# Altium footprint library SWITCH_SLIDE.PcbLib: 12 footprints
Each footprint in its own frame and in the unit in brackets; x right, y up, seen from the top. Pads: shape width x height; smd on the part's side, far side on the other; paste and mask are expansions set on the pad; w line width, h text height; cw(c..) or ccw(c..) is an arc to the next point about the centre after c.
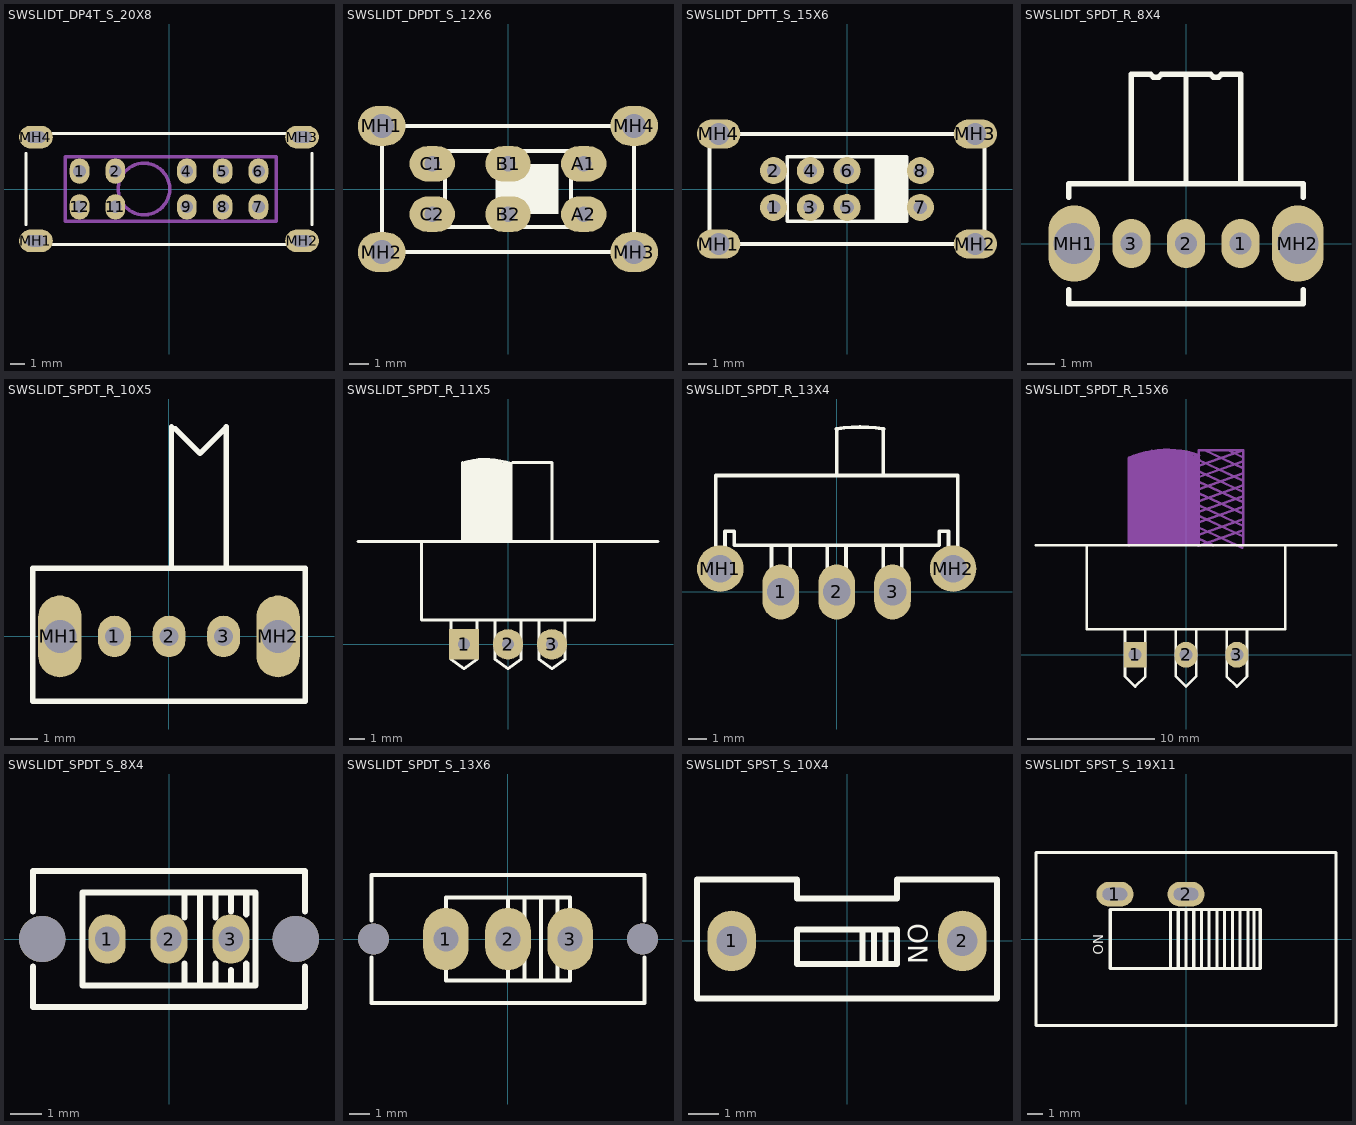
[diagram p0: the footprints below, top view; thin cyan lines are the x and y axes]

## SWSLIDT_DP4T_S_20X8 [mm]
pads (14):
  oval 1.4x1.8 hole 0.9: 1(-6.35,1.27) 2(-3.81,1.27) 4(1.27,1.27) 5(3.81,1.27) 6(6.35,1.27) 7(6.35,-1.27) 8(3.81,-1.27) 9(1.27,-1.27) 11(-3.81,-1.27) 12(-6.35,-1.27)
  oval 2.4x1.6 hole 0.8 slot 1.4 at 0 deg: MH1(-9.449,-3.683) MH2(9.449,-3.683) MH3(9.449,3.683) MH4(-9.449,3.683)
Top Overlay:
  lines w0.2: -10.16,-2.54 -10.16,2.54 ; -8.255,-3.937 8.255,-3.937 ; -8.255,3.937 8.255,3.937 ; 10.16,-2.54 10.16,2.54
Mechanical 2:
  circle w0.254: c-1.778,0 r1.832
  lines w0.254: -7.366,-2.286 7.62,-2.286 7.62,2.286 -7.366,2.286 -7.366,-2.286
3D body "DP4T.STEP": height 12.25, standoff -2.3, extent -10.075,-3.9 10.075,3.9

## SWSLIDT_DPDT_S_12X6 [mil] "SWITH DUAL POS, DUAL TERMINAL, STRAIGHT"
pads (10):
  oval 90x70 hole 30: A1(150,50) A2(150,-50) B1(0,50) B2(0,-50) C1(-150,50) C2(-150,-50)
  oval 94.49x78.74 hole 47.24: MH1(-250,125) MH2(-250,-125) MH3(250,-125) MH4(250,125)
Top Overlay:
  region: -25,50 -25,-50 100,-50 100,50
  lines w7.87: -250,-125 250,-125 250,125 -250,125 -250,-125 ; -125,-75 -125,75 125,75 125,-75 -125,-75

## SWSLIDT_DPTT_S_15X6 [mil] "SWITCH DUAL POS TO THREE TERMINAL, STRAIGHT"
pads (12):
  round 59.06 hole 30: 1(-160,-40) 2(-160,40) 3(-80,-40) 4(-80,40) 5(0,-40) 6(0,40) 7(160,-40) 8(160,40)
  oval 94.49x62.99 hole 47.24: MH1(-280,-120) MH2(280,-120) MH3(280,120) MH4(-280,120)
Top Overlay:
  region: 130,-70 130,70 60,70 60,-70
  lines w7.87: -300,-120 300,-120 300,120 -300,120 -300,-120 ; -130,-70 -130,70 130,70 130,-70 -130,-70

## SWSLIDT_SPDT_R_8X4 [mm] "Subminiator SPDT switch"
pads (5):
  oval 1.4x1.8 hole 0.8: 1(2,0) 2(0,0) 3(-2,0)
  oval 1.9x2.8 hole 1.5: MH1(-4.1,0) MH2(4.1,0)
Top Overlay:
  lines w0.2: -4.3,-1.7 -4.3,-2.2 4.3,-2.2 4.3,-1.7 ; -4.3,1.7 -4.3,2.2 4.3,2.2 4.3,1.7 ; -2,2.2 -2,6.2 ; 0,2.2 0,6.2 ; 2,2.2 2,6.2 1.3,6.2 1.2,6.1 1,6.1 0.9,6.2 0,6.2 ; -2,6.2 -1.3,6.2 -1.2,6.1 -1,6.1 -0.9,6.2 0,6.2 ; -2,6.2 -2,6.2 ; 0,6.2 0,6.2 ; 0,6.2 0,6.2
3D body "User Library-CK_Slide.step": height 4.7, standoff -2.79, extent -4.311,-2.28 4.3,6.093

## SWSLIDT_SPDT_R_10X5 [mm]
pads (5):
  oval 1.2x1.524 hole 0.7: 1(-2,0) 2(0,0) 3(2,0)
  oval 1.6x3 hole 1.2: MH1(-4,0) MH2(4,0)
Top Overlay:
  lines w0.2: 0.091,2.589 0.091,7.689 ; 0.236,7.616 1.136,6.716 ; 2.036,7.616 1.136,6.716 ; 2.091,2.589 2.091,7.689 ; 1.136,6.716 1.136,6.716 ; -5,-2.375 -5,2.5 5,2.5 5,-2.375 -5,-2.375

## SWSLIDT_SPDT_R_11X5 [mm]
pads (3):
  rect 2x2 hole 0.8: 1(-2.9,0)
  round 2 hole 0.8: 2(0,0) 3(2.9,0)
Top Overlay:
  region: 0.2,6.8 0.2,11.982 -2.998,11.982 -2.998,6.8
  lines w0.2: -9.9,6.8 9.9,6.8 ; -5.7,6.8 -5.7,1.6 5.7,1.6 5.7,6.8 ; -3.75,1.6 -3.75,-1 -2.9,-1.6 -2.05,-1 -2.05,1.6 ; -3,6.8 -2.998,11.982 cw(c-1.48,6.8) 0.201,11.932 0.2,6.8 ; -2.5,12.01 -0.47,12.01 ; -0.85,1.6 -0.85,-1 0,-1.6 0.85,-1 0.85,1.6 ; 0.282,11.99 2.9,11.99 2.9,6.8 ; 2.05,1.6 2.05,-1 2.9,-1.6 3.75,-1 3.75,1.6

## SWSLIDT_SPDT_R_13X4 [mm] "SWITCH SINGLE POS TO DUAL TERMINAL RIGHT ANGLE"
pads (5):
  oval 2x3 hole 1.5: 1(-3.048,0) 2(0,0) 3(3.048,0)
  round 2.54 hole 1.5: MH1(-6.35,1.27) MH2(6.35,1.27)
Top Overlay:
  lines w0.2: -3.556,2.54 -3.556,0 -2.54,0 -2.54,2.54 ; -0.508,2.54 -0.508,0 0.508,0 0.508,2.54 ; -0.028,8.885 cw(c1.27,1.524) 2.568,8.885 ; 0,6.35 0,8.89 ; 2.54,2.54 2.54,0 3.556,0 3.556,2.54 ; 2.54,6.35 2.54,8.89 ; -6.604,1.27 -6.096,1.27 -6.096,3.302 -5.588,3.302 -5.588,2.54 5.588,2.54 5.588,3.302 6.096,3.302 6.096,1.27 6.604,1.27 6.604,6.35 -6.604,6.35 -6.604,1.27

## SWSLIDT_SPDT_R_15X6 [mil]
pads (3):
  rect 70x80 hole 40: 1(-157.48,0)
  oval 70x80 hole 40: 2(0,0) 3(157.48,0)
Top Overlay:
  lines w7.87: -464.57,338.58 464.57,338.58 ; -307.09,338.58 -307.09,78.74 307.09,78.74 307.09,338.58 ; -188.98,78.74 -188.98,-66.93 -157.48,-98.43 -125.98,-66.93 -125.98,78.74 ; -31.5,78.74 -31.5,-66.93 0,-98.43 31.5,-66.93 31.5,78.74 ; 125.98,78.74 125.98,-66.93 157.48,-98.43 188.98,-66.93 188.98,78.74
Mechanical 3:
  region: 23.62,607.87 23.62,622.44 9.06,622.44 9.06,607.87
  region: -158.66,596.06 -158.66,612.6 -168.11,612.6 -168.11,596.06
  region: -135.83,596.06 -135.83,619.69 -164.17,619.69 -164.17,596.06
  region: -105.51,596.06 -105.51,624.41 -135.83,624.41 -135.83,596.06
  region: 14.17,617.04 14.17,627.56 -22.44,627.56 -22.44,617.04
  region: 40.38,596.06 40.38,617.04 -12.2,617.04 -12.2,596.06
  region: -12.2,596.06 -12.2,631.5 -105.51,631.5 -105.51,596.06
  region: 39.37,338.58 39.37,607.48 -177.17,607.48 -177.17,338.58
  lines w7.87: -177.17,338.58 -177.17,607.48 ; 39.37,337.01 177.17,385.43 ; 39.37,338.58 39.37,633.86 177.17,633.86 ; 39.37,359.45 83.86,338.58 ; 39.37,371.65 177.17,420.08 ; 39.37,394.09 174.02,331.5 ; 39.37,409.84 177.17,458.27 ; 39.37,442.52 177.17,490.94 ; 39.37,475.98 177.17,524.41 ; 39.37,512.99 177.17,561.42 ; 39.37,550.39 177.17,598.82 ; 39.37,585.43 177.17,633.86 ; 42.52,428.74 177.17,366.14 ; 42.52,461.42 177.17,398.82 ; 42.52,498.82 177.17,436.22 ; 42.52,534.65 177.17,472.05 ; 42.52,566.54 177.17,503.94 ; 42.52,601.57 177.17,538.98 ; 56.69,633.86 177.17,577.17 ; 128.35,633.86 177.17,611.02 ; 177.17,338.58 177.17,633.86
  lines w10: -176.89,608.82 cw(c-57.87,338.58) 39.48,617.36
3D body "spdt.STEP": height 356.3, standoff -157.48, extent -462.01,-68.5 462.01,659.84

## SWSLIDT_SPDT_S_8X4 [mm] "Switch, Slide, SPDT, Straight, THD, 8.6X4.3mm"
pads (5):
  oval 1.2x1.6 hole 0.8: 1(-2,0) 2(0,0) 3(2,0)
  round 1.5 hole 1.5 unplated: ""(-4.1,0) ""(4.1,0)
Top Overlay:
  lines w0.2: -4.4,-0.9 -4.4,-2.2 4.4,-2.2 4.4,-0.9 ; -4.4,0.9 -4.4,2.2 4.4,2.2 4.4,0.9 ; 0.5,-1.5 0.5,-0.8 ; 0.5,0.7 0.5,1.5 ; 1,-1.5 1,1.5 ; 1.5,-1.5 1.5,-0.8 ; 1.5,0.7 1.5,1.5 ; 2,-1.5 2,-1 ; 2,0.9 2,1.5 ; 2.5,-1.5 2.5,-0.8 ; 2.5,0.8 2.5,1.5 ; -2.8,-1.5 2.8,-1.5 2.8,1.5 -2.8,1.5 -2.8,-1.5
3D body "OS102011MS2QN1.stp": height 8.8, standoff -2.7, extent -4.3,-2.15 4.3,2.15

## SWSLIDT_SPDT_S_13X6 [mm] "SW_3_13X6"
pads (5):
  oval 2.2x3 hole 1.2: 1(-3,0) 2(0,0) 3(3,0)
  round 1.5 hole 1.5 unplated: ""(-6.5,0) ""(6.5,0)
Top Overlay:
  lines w0.2: -6.6,-0.9 -6.6,-3.1 6.6,-3.1 6.6,-0.9 ; -6.6,0.9 -6.6,3.1 6.6,3.1 6.6,0.9 ; 0,-2 0,2 ; 0.8,-2 0.8,2 ; 1.6,-2 1.6,2 ; 2.4,-2 2.4,2 ; -3,-2 3,-2 3,2 -3,2 -3,-2

## SWSLIDT_SPST_S_10X4 [mm] "SW_SPST 10X4"
pads (2):
  oval 1.6x2 hole 1: 1(-3.81,0) 2(3.81,0)
Top Overlay:
  lines w0.2: 0.508,-0.762 0.508,0.254 ; 0.889,-0.762 0.889,0.381 ; 1.27,-0.762 1.27,0.381 ; -4.953,-1.905 4.953,-1.905 4.953,2.032 1.651,2.032 1.651,1.397 -1.651,1.397 -1.651,2.032 -4.953,2.032 -4.953,-1.905 ; -1.651,-0.762 -1.651,0.381 1.651,0.381 1.651,-0.762 -1.651,-0.762
  text "NO" at 2.667,-0.762 h0.64

## SWSLIDT_SPST_S_19X11 [mm] "Switch, Slide, SPST, Straight, THD, 19X11mm"
pads (2):
  oval 2.4x1.6 hole 0.8 slot 1.6 at 0 deg: 1(-4.6,2.9) 2(0,2.9)
Top Overlay:
  lines w0.2: -1,-1.9 -1,1.9 ; -0.5,-1.9 -0.5,1.9 ; -0.05,-1.9 0,-1.85 0,1.9 ; 0.5,-1.9 0.5,1.9 ; 1,-1.9 1,1.9 ; 1.5,-1.9 1.5,1.9 ; 2,-1.9 2,1.9 ; 2.5,-1.9 2.5,1.9 ; 3,-1.9 3,1.9 ; 3.5,-1.9 3.5,1.9 ; 4,-1.9 4,1.9 ; 4.4,-1.9 4.4,1.9 ; -9.7,-5.6 -9.7,5.6 9.7,5.6 9.7,-5.6 -9.7,-5.6 ; -4.9,-1.9 -4.9,1.9 4.8,1.9 4.8,-1.9 -4.9,-1.9
  text "NO" at -6,0.3 h0.64
3D body "L101011MS02Q.stp": height 14.11, standoff -4.17, extent -9.563,-5.448 9.563,5.448